# Altium footprint library 1SMB2EZ15_R1_00001.PcbLib: 1 footprints
Each footprint in its own frame and in the unit in brackets; x right, y up, seen from the top. Pads: shape width x height; smd on the part's side, far side on the other; paste and mask are expansions set on the pad; w line width, h text height; cw(c..) or ccw(c..) is an arc to the next point about the centre after c.
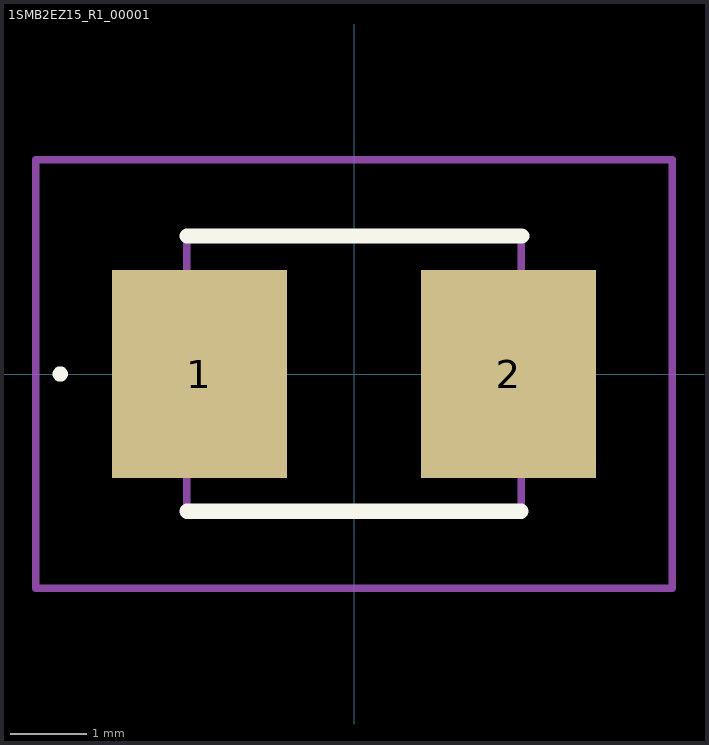
[diagram p0: the footprint, top view; thin cyan lines are the x and y axes]

## 1SMB2EZ15_R1_00001 [mm]
pads (2):
  rect 2.29x2.72 smd: 1(-2.025,0) 2(2.025,0)
Top Overlay:
  lines w0.1: -3.9,0 -3.9,0 ; -3.9,0 ccw(c-3.85,0) -3.8,0 ; -3.9,0 cw(c-3.85,0) -3.8,0 ; -3.8,0 -3.8,0
  lines w0.2: -2.19,-1.8 2.19,-1.8 ; -2.19,1.81 2.2,1.81
Mechanical 15:
  lines w0.1: -2.19,-1.81 2.19,-1.81 2.19,1.81 -2.19,1.81 -2.19,-1.81
Mechanical 20:
  lines w0.1: -4.17,-2.81 4.17,-2.81 4.17,2.81 -4.17,2.81 -4.17,-2.81